# Altium footprint library MCP2515_SOIC18-I_SO.PcbLib: 2 footprints
Each footprint in its own frame and in the unit in brackets; x right, y up, seen from the top. Pads: shape width x height; smd on the part's side, far side on the other; paste and mask are expansions set on the pad; w line width, h text height; cw(c..) or ccw(c..) is an arc to the next point about the centre after c.
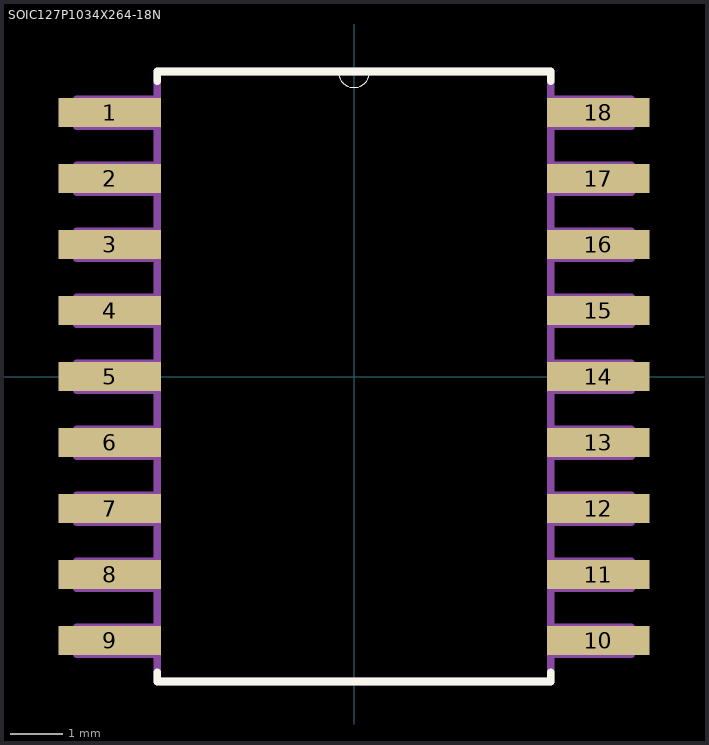
[diagram p0: the footprints below, top view; thin cyan lines are the x and y axes]

## PCBComponent_1 [mil]

## SOIC127P1034X264-18N [mil]
pads (18):
  rect 78x22 smd: 1(-185,200) 2(-185,150) 3(-185,100) 4(-185,50) 5(-185,0) 6(-185,-50) 7(-185,-100) 8(-185,-150) 9(-185,-200) 10(185,-200) 11(185,-150) 12(185,-100) 13(185,-50) 14(185,0) 15(185,50) 16(185,100) 17(185,150) 18(185,200)
Top Overlay:
  lines w0: -12,231 ccw(c0,231) 12,231
  lines w6: -149,-224 -149,-231 149,-231 149,-224 ; -149,224 -149,231 -12,231 12,231 149,231 149,224
Mechanical 4:
  drawing of 158 lines, arcs and shapes, not listed